# Altium schematic symbol library TLV5617.SchLib: 1 symbol
Pins are listed as number, name and electrical type; pins without a type are passive.

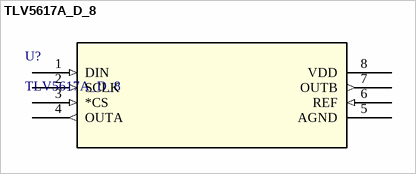
[diagram p0: symbol TLV5617A_D_8]

## TLV5617A_D_8
designator U?
TLV5617; Vendor: Texas Instruments; PACKAGE_DESIGNATOR: D; PIN_COUNT: 8; FAMILY_NAME: PRECISION DAC (=<10MSPS); INDUSTRY_STD_PKG_TYPE: SOIC; Manufacturer_Part_Number: tlv5617a_d_8; GENERIC_PART_NUMBER: TLV5617A; Datasheet URL: http://www.ti.com/lit/gpn/TLV5617A; Manufacturer: Texas Instruments; RefDes: RefDes; Type: DEV; Value: Value
footprint D8
pins: 1 DIN (in), 2 SCLK (in), 3 *CS (in), 4 OUTA (out), 5 AGND (power), 6 REF (in), 7 OUTB (out), 8 VDD (power)